# Altium schematic symbol library Regulator_Linear.SchLib: 1620 symbols (part 4 of 16)
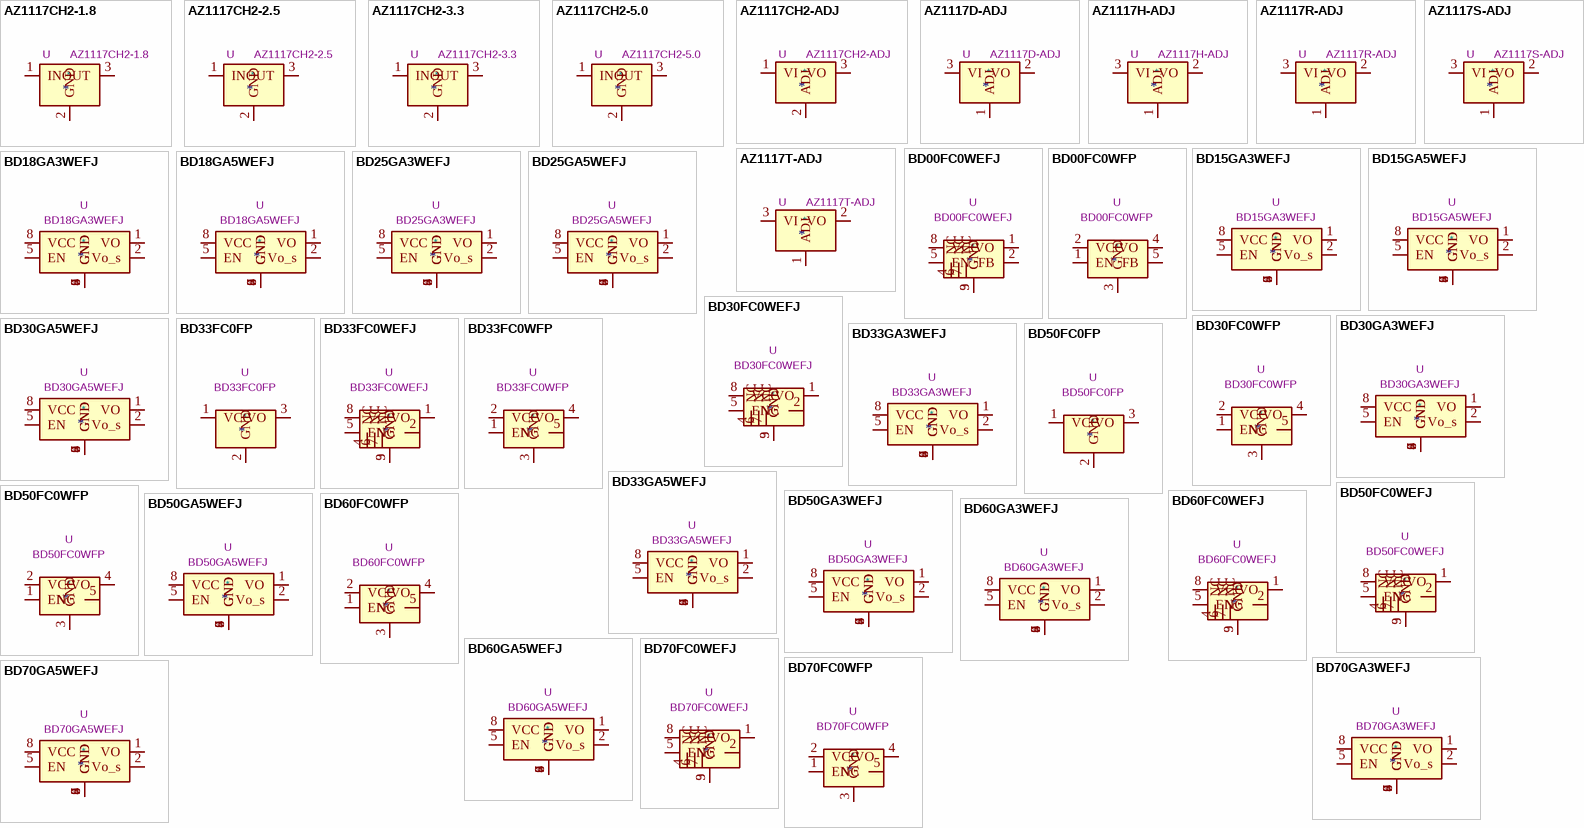
[diagram p43: symbols AZ1117CH2-1.8 to BD70GA5WEFJ]

## BD70FC0WFP
designator *  value BD70FC0WFP  Reference: U
1A, 7.0V LDO regulator with OVP & TSP, with enable, TO-252; ki_keywords: linear regulator fixed positive over voltage protection thermal shutdown; ki_fp_filters: TO?252*; Footprint: Package_TO_SOT_SMD:TO-252-4; Datasheet: https://fscdn.rohm.com/en/products/databook/datasheet/ic/power/linear_regulator/bdxxfc0wefj-e.pdf; Description_: 1A, 7.0V LDO regulator with OVP & TSP, with enable, TO-252
pins: 1 EN, 2 VCC, 3 GND, 4 VO, 5 NC

## BD70GA3WEFJ
designator *  value BD70GA3WEFJ  Reference: U
300mA, 7V LDO regulator with OVP & TSP, HTSOP-8; ki_keywords: linear regulator fixed positive over voltage protection thermal shutdown; ki_fp_filters: HTSOP*1EP*3.9x4.9mm*P1.27mm*; Footprint: Package_SO:HTSOP-8-1EP_3.9x4.9mm_P1.27mm_EP2.4x3.2mm; Datasheet: http://rohmfs.rohm.com/en/products/databook/datasheet/ic/power/linear_regulator/bdxxga3wefj-e.pdf; Description_: 300mA, 7V LDO regulator with OVP & TSP, HTSOP-8
pins: 1 VO, 2 Vo_s, 3 GND, 4 GND, 5 EN, 6 GND, 7 GND, 8 VCC, 9 GND

## BD70GA5WEFJ
designator *  value BD70GA5WEFJ  Reference: U
500mA, 7V LDO regulator with OVP & TSP, HTSOP-8; ki_keywords: linear regulator fixed positive over voltage protection thermal shutdown; ki_fp_filters: HTSOP*1EP*3.9x4.9mm*P1.27mm*; Footprint: Package_SO:HTSOP-8-1EP_3.9x4.9mm_P1.27mm_EP2.4x3.2mm; Datasheet: http://rohmfs.rohm.com/en/products/databook/datasheet/ic/power/linear_regulator/bdxxga5wefj-e.pdf; Description_: 500mA, 7V LDO regulator with OVP & TSP, HTSOP-8
pins: 1 VO, 2 Vo_s, 3 GND, 4 GND, 5 EN, 6 GND, 7 GND, 8 VCC, 9 GND

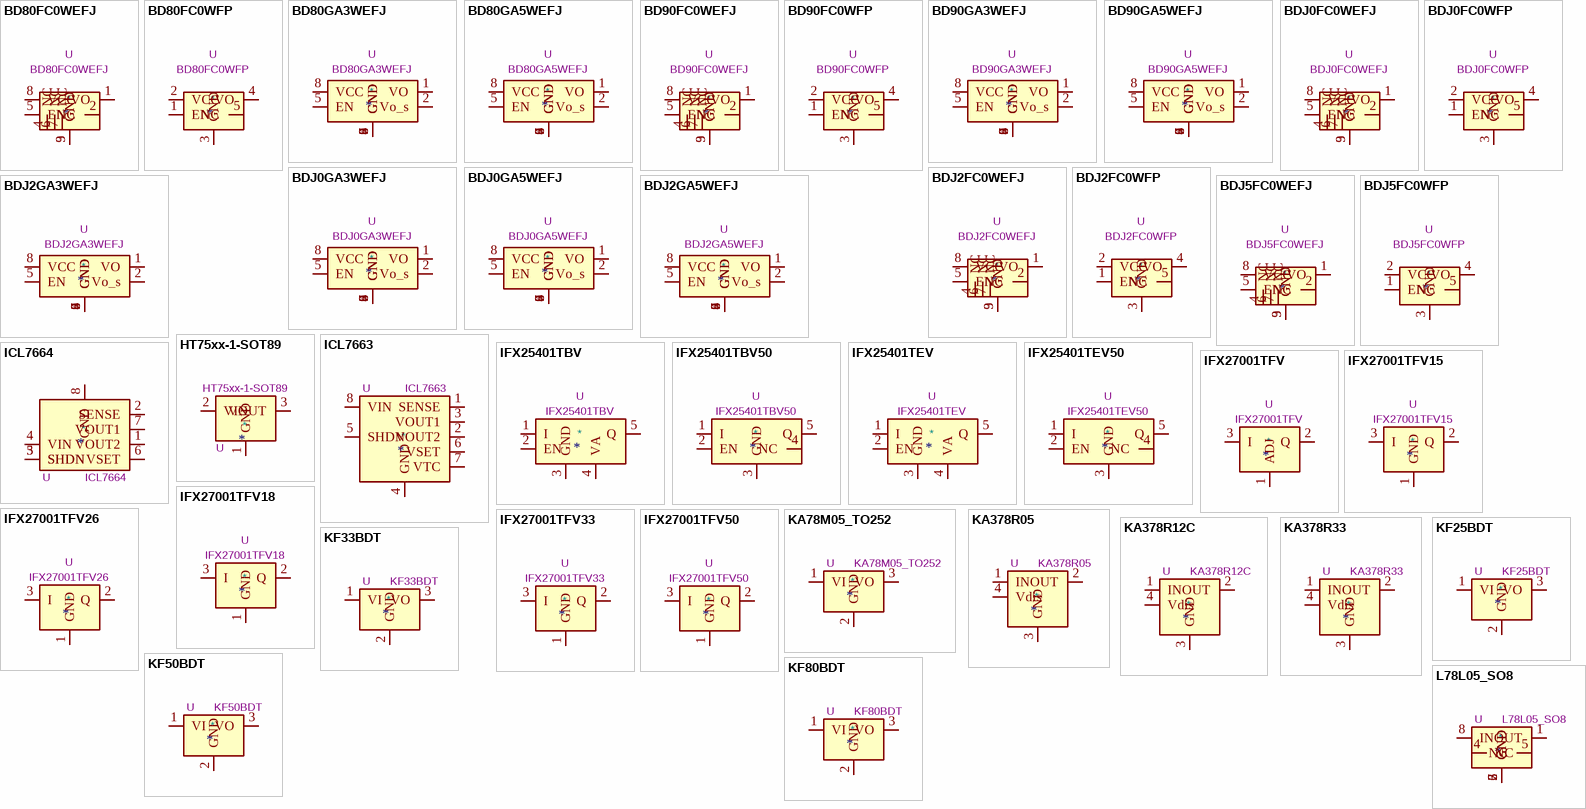
[diagram p8: symbols BD80FC0WEFJ to L78L05_SO8]

## BD80FC0WEFJ
designator *  value BD80FC0WEFJ  Reference: U
1A, 8.0V LDO regulator with OVP & TSP, with enable, HTSOP-J8; ki_keywords: linear regulator fixed positive over voltage protection thermal shutdown; ki_fp_filters: HTSOP*1EP*3.9x4.9mm*P1.27mm*; Footprint: Package_SO:HTSOP-8-1EP_3.9x4.9mm_P1.27mm_EP2.4x3.2mm; Datasheet: https://fscdn.rohm.com/en/products/databook/datasheet/ic/power/linear_regulator/bdxxfc0wefj-e.pdf; Description_: 1A, 8.0V LDO regulator with OVP & TSP, with enable, HTSOP-J8
pins: 1 VO, 2 NC, 3 GND, 4 NC, 5 EN, 6 NC, 7 NC, 8 VCC, 9 GND

## BD80FC0WFP
designator *  value BD80FC0WFP  Reference: U
1A, 8.0V LDO regulator with OVP & TSP, with enable, TO-252; ki_keywords: linear regulator fixed positive over voltage protection thermal shutdown; ki_fp_filters: TO?252*; Footprint: Package_TO_SOT_SMD:TO-252-4; Datasheet: https://fscdn.rohm.com/en/products/databook/datasheet/ic/power/linear_regulator/bdxxfc0wefj-e.pdf; Description_: 1A, 8.0V LDO regulator with OVP & TSP, with enable, TO-252
pins: 1 EN, 2 VCC, 3 GND, 4 VO, 5 NC

## BD80GA3WEFJ
designator *  value BD80GA3WEFJ  Reference: U
300mA, 8V LDO regulator with OVP & TSP, HTSOP-8; ki_keywords: linear regulator fixed positive over voltage protection thermal shutdown; ki_fp_filters: HTSOP*1EP*3.9x4.9mm*P1.27mm*; Footprint: Package_SO:HTSOP-8-1EP_3.9x4.9mm_P1.27mm_EP2.4x3.2mm; Datasheet: http://rohmfs.rohm.com/en/products/databook/datasheet/ic/power/linear_regulator/bdxxga3wefj-e.pdf; Description_: 300mA, 8V LDO regulator with OVP & TSP, HTSOP-8
pins: 1 VO, 2 Vo_s, 3 GND, 4 GND, 5 EN, 6 GND, 7 GND, 8 VCC, 9 GND

## BD80GA5WEFJ
designator *  value BD80GA5WEFJ  Reference: U
500mA, 8V LDO regulator with OVP & TSP, HTSOP-8; ki_keywords: linear regulator fixed positive over voltage protection thermal shutdown; ki_fp_filters: HTSOP*1EP*3.9x4.9mm*P1.27mm*; Footprint: Package_SO:HTSOP-8-1EP_3.9x4.9mm_P1.27mm_EP2.4x3.2mm; Datasheet: http://rohmfs.rohm.com/en/products/databook/datasheet/ic/power/linear_regulator/bdxxga5wefj-e.pdf; Description_: 500mA, 8V LDO regulator with OVP & TSP, HTSOP-8
pins: 1 VO, 2 Vo_s, 3 GND, 4 GND, 5 EN, 6 GND, 7 GND, 8 VCC, 9 GND

## BD90FC0WEFJ
designator *  value BD90FC0WEFJ  Reference: U
1A, 9.0V LDO regulator with OVP & TSP, with enable, HTSOP-J8; ki_keywords: linear regulator fixed positive over voltage protection thermal shutdown; ki_fp_filters: HTSOP*1EP*3.9x4.9mm*P1.27mm*; Footprint: Package_SO:HTSOP-8-1EP_3.9x4.9mm_P1.27mm_EP2.4x3.2mm; Datasheet: https://fscdn.rohm.com/en/products/databook/datasheet/ic/power/linear_regulator/bdxxfc0wefj-e.pdf; Description_: 1A, 9.0V LDO regulator with OVP & TSP, with enable, HTSOP-J8
pins: 1 VO, 2 NC, 3 GND, 4 NC, 5 EN, 6 NC, 7 NC, 8 VCC, 9 GND

## BD90FC0WFP
designator *  value BD90FC0WFP  Reference: U
1A, 9.0V LDO regulator with OVP & TSP, with enable, TO-252; ki_keywords: linear regulator fixed positive over voltage protection thermal shutdown; ki_fp_filters: TO?252*; Footprint: Package_TO_SOT_SMD:TO-252-4; Datasheet: https://fscdn.rohm.com/en/products/databook/datasheet/ic/power/linear_regulator/bdxxfc0wefj-e.pdf; Description_: 1A, 9.0V LDO regulator with OVP & TSP, with enable, TO-252
pins: 1 EN, 2 VCC, 3 GND, 4 VO, 5 NC

## BD90GA3WEFJ
designator *  value BD90GA3WEFJ  Reference: U
300mA, 9V LDO regulator with OVP & TSP, HTSOP-8; ki_keywords: linear regulator fixed positive over voltage protection thermal shutdown; ki_fp_filters: HTSOP*1EP*3.9x4.9mm*P1.27mm*; Footprint: Package_SO:HTSOP-8-1EP_3.9x4.9mm_P1.27mm_EP2.4x3.2mm; Datasheet: http://rohmfs.rohm.com/en/products/databook/datasheet/ic/power/linear_regulator/bdxxga3wefj-e.pdf; Description_: 300mA, 9V LDO regulator with OVP & TSP, HTSOP-8
pins: 1 VO, 2 Vo_s, 3 GND, 4 GND, 5 EN, 6 GND, 7 GND, 8 VCC, 9 GND

## BD90GA5WEFJ
designator *  value BD90GA5WEFJ  Reference: U
500mA, 9V LDO regulator with OVP & TSP, HTSOP-8; ki_keywords: linear regulator fixed positive over voltage protection thermal shutdown; ki_fp_filters: HTSOP*1EP*3.9x4.9mm*P1.27mm*; Footprint: Package_SO:HTSOP-8-1EP_3.9x4.9mm_P1.27mm_EP2.4x3.2mm; Datasheet: http://rohmfs.rohm.com/en/products/databook/datasheet/ic/power/linear_regulator/bdxxga5wefj-e.pdf; Description_: 500mA, 9V LDO regulator with OVP & TSP, HTSOP-8
pins: 1 VO, 2 Vo_s, 3 GND, 4 GND, 5 EN, 6 GND, 7 GND, 8 VCC, 9 GND

## BDJ0FC0WEFJ
designator *  value BDJ0FC0WEFJ  Reference: U
1A, 10.0V LDO regulator with OVP & TSP, with enable, HTSOP-J8; ki_keywords: linear regulator fixed positive over voltage protection thermal shutdown; ki_fp_filters: HTSOP*1EP*3.9x4.9mm*P1.27mm*; Footprint: Package_SO:HTSOP-8-1EP_3.9x4.9mm_P1.27mm_EP2.4x3.2mm; Datasheet: https://fscdn.rohm.com/en/products/databook/datasheet/ic/power/linear_regulator/bdxxfc0wefj-e.pdf; Description_: 1A, 10.0V LDO regulator with OVP & TSP, with enable, HTSOP-J8
pins: 1 VO, 2 NC, 3 GND, 4 NC, 5 EN, 6 NC, 7 NC, 8 VCC, 9 GND

## BDJ0FC0WFP
designator *  value BDJ0FC0WFP  Reference: U
1A, 10.0V LDO regulator with OVP & TSP, with enable, TO-252; ki_keywords: linear regulator fixed positive over voltage protection thermal shutdown; ki_fp_filters: TO?252*; Footprint: Package_TO_SOT_SMD:TO-252-4; Datasheet: https://fscdn.rohm.com/en/products/databook/datasheet/ic/power/linear_regulator/bdxxfc0wefj-e.pdf; Description_: 1A, 10.0V LDO regulator with OVP & TSP, with enable, TO-252
pins: 1 EN, 2 VCC, 3 GND, 4 VO, 5 NC

## BDJ0GA3WEFJ
designator *  value BDJ0GA3WEFJ  Reference: U
300mA, 10V LDO regulator with OVP & TSP, HTSOP-8; ki_keywords: linear regulator fixed positive over voltage protection thermal shutdown; ki_fp_filters: HTSOP*1EP*3.9x4.9mm*P1.27mm*; Footprint: Package_SO:HTSOP-8-1EP_3.9x4.9mm_P1.27mm_EP2.4x3.2mm; Datasheet: http://rohmfs.rohm.com/en/products/databook/datasheet/ic/power/linear_regulator/bdxxga3wefj-e.pdf; Description_: 300mA, 10V LDO regulator with OVP & TSP, HTSOP-8
pins: 1 VO, 2 Vo_s, 3 GND, 4 GND, 5 EN, 6 GND, 7 GND, 8 VCC, 9 GND

## BDJ0GA5WEFJ
designator *  value BDJ0GA5WEFJ  Reference: U
500mA, 10V LDO regulator with OVP & TSP, HTSOP-8; ki_keywords: linear regulator fixed positive over voltage protection thermal shutdown; ki_fp_filters: HTSOP*1EP*3.9x4.9mm*P1.27mm*; Footprint: Package_SO:HTSOP-8-1EP_3.9x4.9mm_P1.27mm_EP2.4x3.2mm; Datasheet: http://rohmfs.rohm.com/en/products/databook/datasheet/ic/power/linear_regulator/bdxxga5wefj-e.pdf; Description_: 500mA, 10V LDO regulator with OVP & TSP, HTSOP-8
pins: 1 VO, 2 Vo_s, 3 GND, 4 GND, 5 EN, 6 GND, 7 GND, 8 VCC, 9 GND

## BDJ2FC0WEFJ
designator *  value BDJ2FC0WEFJ  Reference: U
1A, 12.0V LDO regulator with OVP & TSP, with enable, HTSOP-J8; ki_keywords: linear regulator fixed positive over voltage protection thermal shutdown; ki_fp_filters: HTSOP*1EP*3.9x4.9mm*P1.27mm*; Footprint: Package_SO:HTSOP-8-1EP_3.9x4.9mm_P1.27mm_EP2.4x3.2mm; Datasheet: https://fscdn.rohm.com/en/products/databook/datasheet/ic/power/linear_regulator/bdxxfc0wefj-e.pdf; Description_: 1A, 12.0V LDO regulator with OVP & TSP, with enable, HTSOP-J8
pins: 1 VO, 2 NC, 3 GND, 4 NC, 5 EN, 6 NC, 7 NC, 8 VCC, 9 GND

## BDJ2FC0WFP
designator *  value BDJ2FC0WFP  Reference: U
1A, 12.0V LDO regulator with OVP & TSP, with enable, TO-252; ki_keywords: linear regulator fixed positive over voltage protection thermal shutdown; ki_fp_filters: TO?252*; Footprint: Package_TO_SOT_SMD:TO-252-4; Datasheet: https://fscdn.rohm.com/en/products/databook/datasheet/ic/power/linear_regulator/bdxxfc0wefj-e.pdf; Description_: 1A, 12.0V LDO regulator with OVP & TSP, with enable, TO-252
pins: 1 EN, 2 VCC, 3 GND, 4 VO, 5 NC

## BDJ2GA3WEFJ
designator *  value BDJ2GA3WEFJ  Reference: U
300mA, 12V LDO regulator with OVP & TSP, HTSOP-8; ki_keywords: linear regulator fixed positive over voltage protection thermal shutdown; ki_fp_filters: HTSOP*1EP*3.9x4.9mm*P1.27mm*; Footprint: Package_SO:HTSOP-8-1EP_3.9x4.9mm_P1.27mm_EP2.4x3.2mm; Datasheet: http://rohmfs.rohm.com/en/products/databook/datasheet/ic/power/linear_regulator/bdxxga3wefj-e.pdf; Description_: 300mA, 12V LDO regulator with OVP & TSP, HTSOP-8
pins: 1 VO, 2 Vo_s, 3 GND, 4 GND, 5 EN, 6 GND, 7 GND, 8 VCC, 9 GND

## BDJ2GA5WEFJ
designator *  value BDJ2GA5WEFJ  Reference: U
500mA, 12V LDO regulator with OVP & TSP, HTSOP-8; ki_keywords: linear regulator fixed positive over voltage protection thermal shutdown; ki_fp_filters: HTSOP*1EP*3.9x4.9mm*P1.27mm*; Footprint: Package_SO:HTSOP-8-1EP_3.9x4.9mm_P1.27mm_EP2.4x3.2mm; Datasheet: http://rohmfs.rohm.com/en/products/databook/datasheet/ic/power/linear_regulator/bdxxga5wefj-e.pdf; Description_: 500mA, 12V LDO regulator with OVP & TSP, HTSOP-8
pins: 1 VO, 2 Vo_s, 3 GND, 4 GND, 5 EN, 6 GND, 7 GND, 8 VCC, 9 GND

## BDJ5FC0WEFJ
designator *  value BDJ5FC0WEFJ  Reference: U
1A, 15.0V LDO regulator with OVP & TSP, with enable, HTSOP-J8; ki_keywords: linear regulator fixed positive over voltage protection thermal shutdown; ki_fp_filters: HTSOP*1EP*3.9x4.9mm*P1.27mm*; Footprint: Package_SO:HTSOP-8-1EP_3.9x4.9mm_P1.27mm_EP2.4x3.2mm; Datasheet: https://fscdn.rohm.com/en/products/databook/datasheet/ic/power/linear_regulator/bdxxfc0wefj-e.pdf; Description_: 1A, 15.0V LDO regulator with OVP & TSP, with enable, HTSOP-J8
pins: 1 VO, 2 NC, 3 GND, 4 NC, 5 EN, 6 NC, 7 NC, 8 VCC, 9 GND

## BDJ5FC0WFP
designator *  value BDJ5FC0WFP  Reference: U
1A, 15.0V LDO regulator with OVP & TSP, with enable, TO-252; ki_keywords: linear regulator fixed positive over voltage protection thermal shutdown; ki_fp_filters: TO?252*; Footprint: Package_TO_SOT_SMD:TO-252-4; Datasheet: https://fscdn.rohm.com/en/products/databook/datasheet/ic/power/linear_regulator/bdxxfc0wefj-e.pdf; Description_: 1A, 15.0V LDO regulator with OVP & TSP, with enable, TO-252
pins: 1 EN, 2 VCC, 3 GND, 4 VO, 5 NC

## HT75xx-1-SOT89
designator *  value HT75xx-1-SOT89  Reference: U
100mA Low Dropout Voltage Regulator, Fixed Output, SOT89; ki_keywords: 100mA LDO Regulator Fixed Positive; ki_fp_filters: SOT?89*; Footprint: Package_TO_SOT_SMD:SOT-89-3; Datasheet: https://www.holtek.com/documents/10179/116711/HT75xx-1v250.pdf; Description_: 100mA Low Dropout Voltage Regulator, Fixed Output, SOT89
pins: 1 GND, 2 VIN, 3 VOUT

## ICL7663
designator *  value ICL7663  Reference: U
50mA 5V/Programmable Voltage Regulator, DIP-8/SO-8/TO-99; ki_keywords: Linear Regulator 50mA 5V fixed; ki_fp_filters: DIP*W7.62mm* SOIC*3.9x4.9mm*P1.27mm* TO?99*; Datasheet: https://datasheets.maximintegrated.com/en/ds/ICL7663.pdf; Description_: 50mA 5V/Programmable Voltage Regulator, DIP-8/SO-8/TO-99
pins: 1 SENSE, 2 VOUT2, 3 VOUT1, 4 GND, 5 SHDN, 6 VSET, 7 VTC, 8 VIN

## ICL7664
designator *  value ICL7664  Reference: U
50mA Dual Mode -5V/Programmable Negative Voltage Regulator, DIP-8/SO-8/TO-99; ki_keywords: Linear Regulator 50mA -5V fixed negative; ki_fp_filters: DIP*W7.62mm* SOIC*3.9x4.9mm*P1.27mm* TO?99*; Datasheet: http://pe2bz.philpem.me.uk/pdf%20on%20typenumber/I-L/ICL7664.pdf; Description_: 50mA Dual Mode -5V/Programmable Negative Voltage Regulator, DIP-8/SO-8/TO-99
pins: 1 VOUT2, 2 SENSE, 3 SHDN, 4 VIN, 5 SHDN, 6 VSET, 7 VOUT1, 8 GND

## IFX25401TBV
designator *  value IFX25401TBV  Reference: U
Adjustable LDO Linear Voltage Regulator (TO-263-5); ki_keywords: adjustable LDO positive voltage regulator; ki_fp_filters: TO?263*TabPin3*; Footprint: Package_TO_SOT_SMD:TO-263-5_TabPin3; Datasheet: https://www.infineon.com/dgdl/Infineon-IFX25401-DS-v01_02-en.pdf?fileId=db3a304320d39d590120f62a690569f7; Description_: Adjustable LDO Linear Voltage Regulator (TO-263-5)
pins: 1 I, 2 EN, 3 GND, 4 VA, 5 Q

## IFX25401TBV50
designator *  value IFX25401TBV50  Reference: U
Fixed 5V LDO Linear Voltage Regulator (TO-263-5); ki_keywords: fixed ldo positive voltage regulator; ki_fp_filters: TO?263*TabPin3*; Footprint: Package_TO_SOT_SMD:TO-263-5_TabPin3; Datasheet: https://www.infineon.com/dgdl/Infineon-IFX25401-DS-v01_02-en.pdf?fileId=db3a304320d39d590120f62a690569f7; Description_: Fixed 5V LDO Linear Voltage Regulator (TO-263-5)
pins: 1 I, 2 EN, 3 GND, 4 NC, 5 Q

## IFX25401TEV
designator *  value IFX25401TEV  Reference: U
Adjustable LDO Linear Voltage Regulator (TO-252-4); ki_keywords: adjustable LDO positive voltage regulator; ki_fp_filters: TO*252*; Footprint: Package_TO_SOT_SMD:TO-252-4; Datasheet: https://www.infineon.com/dgdl/Infineon-IFX25401-DS-v01_02-en.pdf?fileId=db3a304320d39d590120f62a690569f7; Description_: Adjustable LDO Linear Voltage Regulator (TO-252-4)
pins: 1 I, 2 EN, 3 GND, 4 VA, 5 Q

## IFX25401TEV50
designator *  value IFX25401TEV50  Reference: U
Fixed 5V LDO Linear Voltage Regulator (TO-252-4); ki_keywords: fixed ldo positive voltage regulator; ki_fp_filters: TO*252*; Footprint: Package_TO_SOT_SMD:TO-252-4; Datasheet: https://www.infineon.com/dgdl/Infineon-IFX25401-DS-v01_02-en.pdf?fileId=db3a304320d39d590120f62a690569f7; Description_: Fixed 5V LDO Linear Voltage Regulator (TO-252-4)
pins: 1 I, 2 EN, 3 GND, 4 NC, 5 Q

## IFX27001TFV
designator *  value IFX27001TFV  Reference: U
1A Low Dropout Regulator, positive, adjustable output, TO-252-3; ki_keywords: LDO positive voltage industrial; ki_fp_filters: TO?252*; Footprint: Package_TO_SOT_SMD:TO-252-3_TabPin2; Datasheet: https://static6.arrow.com/aropdfconversion/dc75757ae45a88e5f69bdce3f2a651a5fe0ca07d/ifx27001_ds_10.pdf; Description_: 1A Low Dropout Regulator, positive, adjustable output, TO-252-3
pins: 1 ADJ, 2 Q, 3 I

## IFX27001TFV15
designator *  value IFX27001TFV15  Reference: U
1A Low Dropout Regulator, positive, 1.5V fixed output, TO-252-3; ki_keywords: LDO positive voltage industrial; ki_fp_filters: TO?252*; Footprint: Package_TO_SOT_SMD:TO-252-3_TabPin2; Datasheet: https://static6.arrow.com/aropdfconversion/dc75757ae45a88e5f69bdce3f2a651a5fe0ca07d/ifx27001_ds_10.pdf; Description_: 1A Low Dropout Regulator, positive, 1.5V fixed output, TO-252-3
pins: 1 GND, 2 Q, 3 I

## IFX27001TFV18
designator *  value IFX27001TFV18  Reference: U
1A Low Dropout Regulator, positive, 1.8V fixed output, TO-252-3; ki_keywords: LDO positive voltage industrial; ki_fp_filters: TO?252*; Footprint: Package_TO_SOT_SMD:TO-252-3_TabPin2; Datasheet: https://static6.arrow.com/aropdfconversion/dc75757ae45a88e5f69bdce3f2a651a5fe0ca07d/ifx27001_ds_10.pdf; Description_: 1A Low Dropout Regulator, positive, 1.8V fixed output, TO-252-3
pins: 1 GND, 2 Q, 3 I

## IFX27001TFV26
designator *  value IFX27001TFV26  Reference: U
1A Low Dropout Regulator, positive, 2.6V fixed output, TO-252-3; ki_keywords: LDO positive voltage industrial; ki_fp_filters: TO?252*; Footprint: Package_TO_SOT_SMD:TO-252-3_TabPin2; Datasheet: https://static6.arrow.com/aropdfconversion/dc75757ae45a88e5f69bdce3f2a651a5fe0ca07d/ifx27001_ds_10.pdf; Description_: 1A Low Dropout Regulator, positive, 2.6V fixed output, TO-252-3
pins: 1 GND, 2 Q, 3 I

## IFX27001TFV33
designator *  value IFX27001TFV33  Reference: U
1A Low Dropout Regulator, positive, 3.3V fixed output, TO-252-3; ki_keywords: LDO positive voltage industrial; ki_fp_filters: TO?252*; Footprint: Package_TO_SOT_SMD:TO-252-3_TabPin2; Datasheet: https://static6.arrow.com/aropdfconversion/dc75757ae45a88e5f69bdce3f2a651a5fe0ca07d/ifx27001_ds_10.pdf; Description_: 1A Low Dropout Regulator, positive, 3.3V fixed output, TO-252-3
pins: 1 GND, 2 Q, 3 I

## IFX27001TFV50
designator *  value IFX27001TFV50  Reference: U
1A Low Dropout Regulator, positive, 5.0V fixed output, TO-252-3; ki_keywords: LDO positive voltage industrial; ki_fp_filters: TO?252*; Footprint: Package_TO_SOT_SMD:TO-252-3_TabPin2; Datasheet: https://static6.arrow.com/aropdfconversion/dc75757ae45a88e5f69bdce3f2a651a5fe0ca07d/ifx27001_ds_10.pdf; Description_: 1A Low Dropout Regulator, positive, 5.0V fixed output, TO-252-3
pins: 1 GND, 2 Q, 3 I

## KA78M05_TO252
designator *  value KA78M05_TO252  Reference: U
Positive 500mA 35V Linear Regulator, Fixed Output 5V, TO-252 (D-PAK); ki_keywords: Voltage Regulator 500mA Positive; ki_fp_filters: TO?252*; Footprint: Package_TO_SOT_SMD:TO-252-2; Datasheet: https://www.onsemi.com/pub/Collateral/MC78M00-D.PDF; Description_: Positive 500mA 35V Linear Regulator, Fixed Output 5V, TO-252 (D-PAK)
pins: 1 VI, 2 GND, 3 VO

## KA378R05
designator *  value KA378R05  Reference: U
Positive 3A 35V Linear Regulator with Disable Pin, LDO, Fixed Output 5V, TO-220F-4L; ki_keywords: Voltage Regulator 3A Positive LDO Disable Pin; ki_fp_filters: TO?220*; Footprint: Package_TO_SOT_THT:TO-220-4_Vertical; Datasheet: https://www.onsemi.com/pub/Collateral/KA378R05-D.pdf; Description_: Positive 3A 35V Linear Regulator with Disable Pin, LDO, Fixed Output 5V, TO-220F-4L
pins: 1 IN, 2 OUT, 3 GND, 4 Vdis

## KA378R12C
designator *  value KA378R12C  Reference: U
Positive 3A 35V Linear Regulator with Disable Pin, LDO, Fixed Output 12V, TO-220F-4L; ki_keywords: Voltage Regulator 3A Positive LDO Disable Pin; ki_fp_filters: TO?220*; Footprint: Package_TO_SOT_THT:TO-220-4_Vertical; Datasheet: https://www.onsemi.com/pub/Collateral/KA378R12CTU-D.pdf; Description_: Positive 3A 35V Linear Regulator with Disable Pin, LDO, Fixed Output 12V, TO-220F-4L
pins: 1 IN, 2 OUT, 3 GND, 4 Vdis

## KA378R33
designator *  value KA378R33  Reference: U
Positive 3A 35V Linear Regulator with Disable Pin, LDO, Fixed Output 3.3V, TO-220F-4L; ki_keywords: Voltage Regulator 3A Positive LDO Disable Pin; ki_fp_filters: TO?220*; Footprint: Package_TO_SOT_THT:TO-220-4_Vertical; Datasheet: https://www.onsemi.com/pub/Collateral/KA378R33-D.pdf; Description_: Positive 3A 35V Linear Regulator with Disable Pin, LDO, Fixed Output 3.3V, TO-220F-4L
pins: 1 IN, 2 OUT, 3 GND, 4 Vdis

## KF25BDT
designator *  value KF25BDT  Reference: U
Positive 500mA 20V Linear Regulator, Fixed Output 2.5V, TO-252 (D-PAK); ki_keywords: Voltage Regulator 500mA Positive; ki_fp_filters: TO?252*; Footprint: Package_TO_SOT_SMD:TO-252-2; Datasheet: https://www.st.com/resource/en/datasheet/kfxx.pdf; Description_: Positive 500mA 20V Linear Regulator, Fixed Output 2.5V, TO-252 (D-PAK)
pins: 1 VI, 2 GND, 3 VO

## KF33BDT
designator *  value KF33BDT  Reference: U
Positive 500mA 20V Linear Regulator, Fixed Output 3.3V, TO-252 (D-PAK); ki_keywords: Voltage Regulator 500mA Positive; ki_fp_filters: TO?252*; Footprint: Package_TO_SOT_SMD:TO-252-2; Datasheet: https://www.st.com/resource/en/datasheet/kfxx.pdf; Description_: Positive 500mA 20V Linear Regulator, Fixed Output 3.3V, TO-252 (D-PAK)
pins: 1 VI, 2 GND, 3 VO

## KF50BDT
designator *  value KF50BDT  Reference: U
Positive 500mA 20V Linear Regulator, Fixed Output 5V, TO-252 (D-PAK); ki_keywords: Voltage Regulator 500mA Positive; ki_fp_filters: TO?252*; Footprint: Package_TO_SOT_SMD:TO-252-2; Datasheet: https://www.st.com/resource/en/datasheet/kfxx.pdf; Description_: Positive 500mA 20V Linear Regulator, Fixed Output 5V, TO-252 (D-PAK)
pins: 1 VI, 2 GND, 3 VO

## KF80BDT
designator *  value KF80BDT  Reference: U
Positive 500mA 20V Linear Regulator, Fixed Output 8V, TO-252 (D-PAK); ki_keywords: Voltage Regulator 500mA Positive; ki_fp_filters: TO?252*; Footprint: Package_TO_SOT_SMD:TO-252-2; Datasheet: https://www.st.com/resource/en/datasheet/kfxx.pdf; Description_: Positive 500mA 20V Linear Regulator, Fixed Output 8V, TO-252 (D-PAK)
pins: 1 VI, 2 GND, 3 VO

## L78L05_SO8
designator *  value L78L05_SO8  Reference: U
Positive 100mA 30V Linear Regulator, Fixed Output 5V, SO-8; ki_keywords: Voltage Regulator 100mA Positive; ki_fp_filters: SOIC*3.9x4.9mm*P1.27mm*; Footprint: Package_SO:SOIC-8_3.9x4.9mm_P1.27mm; Datasheet: http://www.st.com/content/ccc/resource/technical/document/datasheet/15/55/e5/aa/23/5b/43/fd/CD00000446.pdf/files/CD00000446.pdf/jcr:content/translations/en.CD00000446.pdf; Description_: Positive 100mA 30V Linear Regulator, Fixed Output 5V, SO-8
pins: 1 OUT, 2 GND, 3 GND, 4 NC, 5 NC, 6 GND, 7 GND, 8 IN

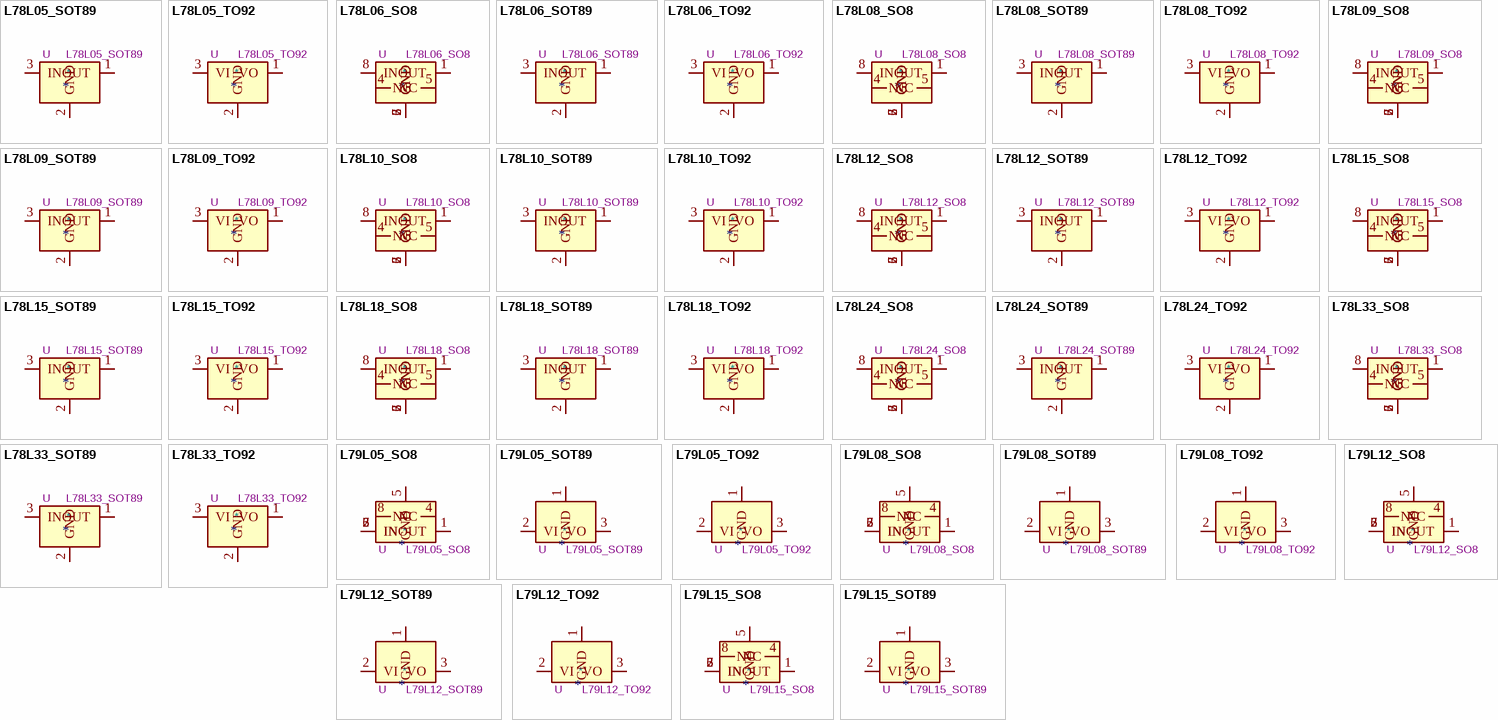
[diagram p9: symbols L78L05_SOT89 to L79L15_SOT89]

## L78L05_SOT89
designator *  value L78L05_SOT89  Reference: U
Positive 100mA 30V Linear Regulator, Fixed Output 5V, SOT-89; ki_keywords: Voltage Regulator 100mA Positive; ki_fp_filters: SOT?89*; Footprint: Package_TO_SOT_SMD:SOT-89-3; Datasheet: http://www.st.com/content/ccc/resource/technical/document/datasheet/15/55/e5/aa/23/5b/43/fd/CD00000446.pdf/files/CD00000446.pdf/jcr:content/translations/en.CD00000446.pdf; Description_: Positive 100mA 30V Linear Regulator, Fixed Output 5V, SOT-89
pins: 1 OUT, 2 GND, 3 IN

## L78L05_TO92
designator *  value L78L05_TO92  Reference: U
Positive 100mA 30V Linear Regulator, Fixed Output 5V, TO-92; ki_keywords: Voltage Regulator 100mA Positive; ki_fp_filters: TO?92*; Footprint: Package_TO_SOT_THT:TO-92_Inline; Datasheet: http://www.st.com/content/ccc/resource/technical/document/datasheet/15/55/e5/aa/23/5b/43/fd/CD00000446.pdf/files/CD00000446.pdf/jcr:content/translations/en.CD00000446.pdf; Description_: Positive 100mA 30V Linear Regulator, Fixed Output 5V, TO-92
pins: 1 VO, 2 GND, 3 VI

## L78L06_SO8
designator *  value L78L06_SO8  Reference: U
Positive 100mA 30V Linear Regulator, Fixed Output 6V, SO-8; ki_keywords: Voltage Regulator 100mA Positive; ki_fp_filters: SOIC*3.9x4.9mm*P1.27mm*; Footprint: Package_SO:SOIC-8_3.9x4.9mm_P1.27mm; Datasheet: http://www.st.com/content/ccc/resource/technical/document/datasheet/15/55/e5/aa/23/5b/43/fd/CD00000446.pdf/files/CD00000446.pdf/jcr:content/translations/en.CD00000446.pdf; Description_: Positive 100mA 30V Linear Regulator, Fixed Output 6V, SO-8
pins: 1 OUT, 2 GND, 3 GND, 4 NC, 5 NC, 6 GND, 7 GND, 8 IN

## L78L06_SOT89
designator *  value L78L06_SOT89  Reference: U
Positive 100mA 30V Linear Regulator, Fixed Output 6V, SOT-89; ki_keywords: Voltage Regulator 100mA Positive; ki_fp_filters: SOT?89*; Footprint: Package_TO_SOT_SMD:SOT-89-3; Datasheet: http://www.st.com/content/ccc/resource/technical/document/datasheet/15/55/e5/aa/23/5b/43/fd/CD00000446.pdf/files/CD00000446.pdf/jcr:content/translations/en.CD00000446.pdf; Description_: Positive 100mA 30V Linear Regulator, Fixed Output 6V, SOT-89
pins: 1 OUT, 2 GND, 3 IN

## L78L06_TO92
designator *  value L78L06_TO92  Reference: U
Positive 100mA 30V Linear Regulator, Fixed Output 6V, TO-92; ki_keywords: Voltage Regulator 100mA Positive; ki_fp_filters: TO?92*; Footprint: Package_TO_SOT_THT:TO-92_Inline; Datasheet: http://www.st.com/content/ccc/resource/technical/document/datasheet/15/55/e5/aa/23/5b/43/fd/CD00000446.pdf/files/CD00000446.pdf/jcr:content/translations/en.CD00000446.pdf; Description_: Positive 100mA 30V Linear Regulator, Fixed Output 6V, TO-92
pins: 1 VO, 2 GND, 3 VI

## L78L08_SO8
designator *  value L78L08_SO8  Reference: U
Positive 100mA 30V Linear Regulator, Fixed Output 8V, SO-8; ki_keywords: Voltage Regulator 100mA Positive; ki_fp_filters: SOIC*3.9x4.9mm*P1.27mm*; Footprint: Package_SO:SOIC-8_3.9x4.9mm_P1.27mm; Datasheet: http://www.st.com/content/ccc/resource/technical/document/datasheet/15/55/e5/aa/23/5b/43/fd/CD00000446.pdf/files/CD00000446.pdf/jcr:content/translations/en.CD00000446.pdf; Description_: Positive 100mA 30V Linear Regulator, Fixed Output 8V, SO-8
pins: 1 OUT, 2 GND, 3 GND, 4 NC, 5 NC, 6 GND, 7 GND, 8 IN

## L78L08_SOT89
designator *  value L78L08_SOT89  Reference: U
Positive 100mA 30V Linear Regulator, Fixed Output 8V, SOT-89; ki_keywords: Voltage Regulator 100mA Positive; ki_fp_filters: SOT?89*; Footprint: Package_TO_SOT_SMD:SOT-89-3; Datasheet: http://www.st.com/content/ccc/resource/technical/document/datasheet/15/55/e5/aa/23/5b/43/fd/CD00000446.pdf/files/CD00000446.pdf/jcr:content/translations/en.CD00000446.pdf; Description_: Positive 100mA 30V Linear Regulator, Fixed Output 8V, SOT-89
pins: 1 OUT, 2 GND, 3 IN

## L78L08_TO92
designator *  value L78L08_TO92  Reference: U
Positive 100mA 30V Linear Regulator, Fixed Output 8V, TO-92; ki_keywords: Voltage Regulator 100mA Positive; ki_fp_filters: TO?92*; Footprint: Package_TO_SOT_THT:TO-92_Inline; Datasheet: http://www.st.com/content/ccc/resource/technical/document/datasheet/15/55/e5/aa/23/5b/43/fd/CD00000446.pdf/files/CD00000446.pdf/jcr:content/translations/en.CD00000446.pdf; Description_: Positive 100mA 30V Linear Regulator, Fixed Output 8V, TO-92
pins: 1 VO, 2 GND, 3 VI

## L78L09_SO8
designator *  value L78L09_SO8  Reference: U
Positive 100mA 30V Linear Regulator, Fixed Output 9V, SO-8; ki_keywords: Voltage Regulator 100mA Positive; ki_fp_filters: SOIC*3.9x4.9mm*P1.27mm*; Footprint: Package_SO:SOIC-8_3.9x4.9mm_P1.27mm; Datasheet: http://www.st.com/content/ccc/resource/technical/document/datasheet/15/55/e5/aa/23/5b/43/fd/CD00000446.pdf/files/CD00000446.pdf/jcr:content/translations/en.CD00000446.pdf; Description_: Positive 100mA 30V Linear Regulator, Fixed Output 9V, SO-8
pins: 1 OUT, 2 GND, 3 GND, 4 NC, 5 NC, 6 GND, 7 GND, 8 IN

## L78L09_SOT89
designator *  value L78L09_SOT89  Reference: U
Positive 100mA 30V Linear Regulator, Fixed Output 9V, SOT-89; ki_keywords: Voltage Regulator 100mA Positive; ki_fp_filters: SOT?89*; Footprint: Package_TO_SOT_SMD:SOT-89-3; Datasheet: http://www.st.com/content/ccc/resource/technical/document/datasheet/15/55/e5/aa/23/5b/43/fd/CD00000446.pdf/files/CD00000446.pdf/jcr:content/translations/en.CD00000446.pdf; Description_: Positive 100mA 30V Linear Regulator, Fixed Output 9V, SOT-89
pins: 1 OUT, 2 GND, 3 IN

## L78L09_TO92
designator *  value L78L09_TO92  Reference: U
Positive 100mA 30V Linear Regulator, Fixed Output 9V, TO-92; ki_keywords: Voltage Regulator 100mA Positive; ki_fp_filters: TO?92*; Footprint: Package_TO_SOT_THT:TO-92_Inline; Datasheet: http://www.st.com/content/ccc/resource/technical/document/datasheet/15/55/e5/aa/23/5b/43/fd/CD00000446.pdf/files/CD00000446.pdf/jcr:content/translations/en.CD00000446.pdf; Description_: Positive 100mA 30V Linear Regulator, Fixed Output 9V, TO-92
pins: 1 VO, 2 GND, 3 VI

## L78L10_SO8
designator *  value L78L10_SO8  Reference: U
Positive 100mA 30V Linear Regulator, Fixed Output 10V, SO-8; ki_keywords: Voltage Regulator 100mA Positive; ki_fp_filters: SOIC*3.9x4.9mm*P1.27mm*; Footprint: Package_SO:SOIC-8_3.9x4.9mm_P1.27mm; Datasheet: http://www.st.com/content/ccc/resource/technical/document/datasheet/15/55/e5/aa/23/5b/43/fd/CD00000446.pdf/files/CD00000446.pdf/jcr:content/translations/en.CD00000446.pdf; Description_: Positive 100mA 30V Linear Regulator, Fixed Output 10V, SO-8
pins: 1 OUT, 2 GND, 3 GND, 4 NC, 5 NC, 6 GND, 7 GND, 8 IN

## L78L10_SOT89
designator *  value L78L10_SOT89  Reference: U
Positive 100mA 30V Linear Regulator, Fixed Output 10V, SOT-89; ki_keywords: Voltage Regulator 100mA Positive; ki_fp_filters: SOT?89*; Footprint: Package_TO_SOT_SMD:SOT-89-3; Datasheet: http://www.st.com/content/ccc/resource/technical/document/datasheet/15/55/e5/aa/23/5b/43/fd/CD00000446.pdf/files/CD00000446.pdf/jcr:content/translations/en.CD00000446.pdf; Description_: Positive 100mA 30V Linear Regulator, Fixed Output 10V, SOT-89
pins: 1 OUT, 2 GND, 3 IN

## L78L10_TO92
designator *  value L78L10_TO92  Reference: U
Positive 100mA 30V Linear Regulator, Fixed Output 10V, TO-92; ki_keywords: Voltage Regulator 100mA Positive; ki_fp_filters: TO?92*; Footprint: Package_TO_SOT_THT:TO-92_Inline; Datasheet: http://www.st.com/content/ccc/resource/technical/document/datasheet/15/55/e5/aa/23/5b/43/fd/CD00000446.pdf/files/CD00000446.pdf/jcr:content/translations/en.CD00000446.pdf; Description_: Positive 100mA 30V Linear Regulator, Fixed Output 10V, TO-92
pins: 1 VO, 2 GND, 3 VI

## L78L12_SO8
designator *  value L78L12_SO8  Reference: U
Positive 100mA 30V Linear Regulator, Fixed Output 12V, SO-8; ki_keywords: Voltage Regulator 100mA Positive; ki_fp_filters: SOIC*3.9x4.9mm*P1.27mm*; Footprint: Package_SO:SOIC-8_3.9x4.9mm_P1.27mm; Datasheet: http://www.st.com/content/ccc/resource/technical/document/datasheet/15/55/e5/aa/23/5b/43/fd/CD00000446.pdf/files/CD00000446.pdf/jcr:content/translations/en.CD00000446.pdf; Description_: Positive 100mA 30V Linear Regulator, Fixed Output 12V, SO-8
pins: 1 OUT, 2 GND, 3 GND, 4 NC, 5 NC, 6 GND, 7 GND, 8 IN

## L78L12_SOT89
designator *  value L78L12_SOT89  Reference: U
Positive 100mA 30V Linear Regulator, Fixed Output 12V, SOT-89; ki_keywords: Voltage Regulator 100mA Positive; ki_fp_filters: SOT?89*; Footprint: Package_TO_SOT_SMD:SOT-89-3; Datasheet: http://www.st.com/content/ccc/resource/technical/document/datasheet/15/55/e5/aa/23/5b/43/fd/CD00000446.pdf/files/CD00000446.pdf/jcr:content/translations/en.CD00000446.pdf; Description_: Positive 100mA 30V Linear Regulator, Fixed Output 12V, SOT-89
pins: 1 OUT, 2 GND, 3 IN

## L78L12_TO92
designator *  value L78L12_TO92  Reference: U
Positive 100mA 30V Linear Regulator, Fixed Output 12V, TO-92; ki_keywords: Voltage Regulator 100mA Positive; ki_fp_filters: TO?92*; Footprint: Package_TO_SOT_THT:TO-92_Inline; Datasheet: http://www.st.com/content/ccc/resource/technical/document/datasheet/15/55/e5/aa/23/5b/43/fd/CD00000446.pdf/files/CD00000446.pdf/jcr:content/translations/en.CD00000446.pdf; Description_: Positive 100mA 30V Linear Regulator, Fixed Output 12V, TO-92
pins: 1 VO, 2 GND, 3 VI

## L78L15_SO8
designator *  value L78L15_SO8  Reference: U
Positive 100mA 30V Linear Regulator, Fixed Output 15V, SO-8; ki_keywords: Voltage Regulator 100mA Positive; ki_fp_filters: SOIC*3.9x4.9mm*P1.27mm*; Footprint: Package_SO:SOIC-8_3.9x4.9mm_P1.27mm; Datasheet: http://www.st.com/content/ccc/resource/technical/document/datasheet/15/55/e5/aa/23/5b/43/fd/CD00000446.pdf/files/CD00000446.pdf/jcr:content/translations/en.CD00000446.pdf; Description_: Positive 100mA 30V Linear Regulator, Fixed Output 15V, SO-8
pins: 1 OUT, 2 GND, 3 GND, 4 NC, 5 NC, 6 GND, 7 GND, 8 IN

## L78L15_SOT89
designator *  value L78L15_SOT89  Reference: U
Positive 100mA 30V Linear Regulator, Fixed Output 15V, SOT-89; ki_keywords: Voltage Regulator 100mA Positive; ki_fp_filters: SOT?89*; Footprint: Package_TO_SOT_SMD:SOT-89-3; Datasheet: http://www.st.com/content/ccc/resource/technical/document/datasheet/15/55/e5/aa/23/5b/43/fd/CD00000446.pdf/files/CD00000446.pdf/jcr:content/translations/en.CD00000446.pdf; Description_: Positive 100mA 30V Linear Regulator, Fixed Output 15V, SOT-89
pins: 1 OUT, 2 GND, 3 IN

## L78L15_TO92
designator *  value L78L15_TO92  Reference: U
Positive 100mA 30V Linear Regulator, Fixed Output 15V, TO-92; ki_keywords: Voltage Regulator 100mA Positive; ki_fp_filters: TO?92*; Footprint: Package_TO_SOT_THT:TO-92_Inline; Datasheet: http://www.st.com/content/ccc/resource/technical/document/datasheet/15/55/e5/aa/23/5b/43/fd/CD00000446.pdf/files/CD00000446.pdf/jcr:content/translations/en.CD00000446.pdf; Description_: Positive 100mA 30V Linear Regulator, Fixed Output 15V, TO-92
pins: 1 VO, 2 GND, 3 VI

## L78L18_SO8
designator *  value L78L18_SO8  Reference: U
Positive 100mA 30V Linear Regulator, Fixed Output 18V, SO-8; ki_keywords: Voltage Regulator 100mA Positive; ki_fp_filters: SOIC*3.9x4.9mm*P1.27mm*; Footprint: Package_SO:SOIC-8_3.9x4.9mm_P1.27mm; Datasheet: http://www.st.com/content/ccc/resource/technical/document/datasheet/15/55/e5/aa/23/5b/43/fd/CD00000446.pdf/files/CD00000446.pdf/jcr:content/translations/en.CD00000446.pdf; Description_: Positive 100mA 30V Linear Regulator, Fixed Output 18V, SO-8
pins: 1 OUT, 2 GND, 3 GND, 4 NC, 5 NC, 6 GND, 7 GND, 8 IN

## L78L18_SOT89
designator *  value L78L18_SOT89  Reference: U
Positive 100mA 30V Linear Regulator, Fixed Output 18V, SOT-89; ki_keywords: Voltage Regulator 100mA Positive; ki_fp_filters: SOT?89*; Footprint: Package_TO_SOT_SMD:SOT-89-3; Datasheet: http://www.st.com/content/ccc/resource/technical/document/datasheet/15/55/e5/aa/23/5b/43/fd/CD00000446.pdf/files/CD00000446.pdf/jcr:content/translations/en.CD00000446.pdf; Description_: Positive 100mA 30V Linear Regulator, Fixed Output 18V, SOT-89
pins: 1 OUT, 2 GND, 3 IN

## L78L18_TO92
designator *  value L78L18_TO92  Reference: U
Positive 100mA 30V Linear Regulator, Fixed Output 18V, TO-92; ki_keywords: Voltage Regulator 100mA Positive; ki_fp_filters: TO?92*; Footprint: Package_TO_SOT_THT:TO-92_Inline; Datasheet: http://www.st.com/content/ccc/resource/technical/document/datasheet/15/55/e5/aa/23/5b/43/fd/CD00000446.pdf/files/CD00000446.pdf/jcr:content/translations/en.CD00000446.pdf; Description_: Positive 100mA 30V Linear Regulator, Fixed Output 18V, TO-92
pins: 1 VO, 2 GND, 3 VI

## L78L24_SO8
designator *  value L78L24_SO8  Reference: U
Positive 100mA 30V Linear Regulator, Fixed Output 24V, SO-8; ki_keywords: Voltage Regulator 100mA Positive; ki_fp_filters: SOIC*3.9x4.9mm*P1.27mm*; Footprint: Package_SO:SOIC-8_3.9x4.9mm_P1.27mm; Datasheet: http://www.st.com/content/ccc/resource/technical/document/datasheet/15/55/e5/aa/23/5b/43/fd/CD00000446.pdf/files/CD00000446.pdf/jcr:content/translations/en.CD00000446.pdf; Description_: Positive 100mA 30V Linear Regulator, Fixed Output 24V, SO-8
pins: 1 OUT, 2 GND, 3 GND, 4 NC, 5 NC, 6 GND, 7 GND, 8 IN

## L78L24_SOT89
designator *  value L78L24_SOT89  Reference: U
Positive 100mA 30V Linear Regulator, Fixed Output 24V, SOT-89; ki_keywords: Voltage Regulator 100mA Positive; ki_fp_filters: SOT?89*; Footprint: Package_TO_SOT_SMD:SOT-89-3; Datasheet: http://www.st.com/content/ccc/resource/technical/document/datasheet/15/55/e5/aa/23/5b/43/fd/CD00000446.pdf/files/CD00000446.pdf/jcr:content/translations/en.CD00000446.pdf; Description_: Positive 100mA 30V Linear Regulator, Fixed Output 24V, SOT-89
pins: 1 OUT, 2 GND, 3 IN

## L78L24_TO92
designator *  value L78L24_TO92  Reference: U
Positive 100mA 30V Linear Regulator, Fixed Output 24V, TO-92; ki_keywords: Voltage Regulator 100mA Positive; ki_fp_filters: TO?92*; Footprint: Package_TO_SOT_THT:TO-92_Inline; Datasheet: http://www.st.com/content/ccc/resource/technical/document/datasheet/15/55/e5/aa/23/5b/43/fd/CD00000446.pdf/files/CD00000446.pdf/jcr:content/translations/en.CD00000446.pdf; Description_: Positive 100mA 30V Linear Regulator, Fixed Output 24V, TO-92
pins: 1 VO, 2 GND, 3 VI

## L78L33_SO8
designator *  value L78L33_SO8  Reference: U
Positive 100mA 30V Linear Regulator, Fixed Output 3.3V, SO-8; ki_keywords: Voltage Regulator 100mA Positive; ki_fp_filters: SOIC*3.9x4.9mm*P1.27mm*; Footprint: Package_SO:SOIC-8_3.9x4.9mm_P1.27mm; Datasheet: http://www.st.com/content/ccc/resource/technical/document/datasheet/15/55/e5/aa/23/5b/43/fd/CD00000446.pdf/files/CD00000446.pdf/jcr:content/translations/en.CD00000446.pdf; Description_: Positive 100mA 30V Linear Regulator, Fixed Output 3.3V, SO-8
pins: 1 OUT, 2 GND, 3 GND, 4 NC, 5 NC, 6 GND, 7 GND, 8 IN

## L78L33_SOT89
designator *  value L78L33_SOT89  Reference: U
Positive 100mA 30V Linear Regulator, Fixed Output 3.3V, SOT-89; ki_keywords: Voltage Regulator 100mA Positive; ki_fp_filters: SOT?89*; Footprint: Package_TO_SOT_SMD:SOT-89-3; Datasheet: http://www.st.com/content/ccc/resource/technical/document/datasheet/15/55/e5/aa/23/5b/43/fd/CD00000446.pdf/files/CD00000446.pdf/jcr:content/translations/en.CD00000446.pdf; Description_: Positive 100mA 30V Linear Regulator, Fixed Output 3.3V, SOT-89
pins: 1 OUT, 2 GND, 3 IN

## L78L33_TO92
designator *  value L78L33_TO92  Reference: U
Positive 100mA 30V Linear Regulator, Fixed Output 3.3V, TO-92; ki_keywords: Voltage Regulator 100mA Positive; ki_fp_filters: TO?92*; Footprint: Package_TO_SOT_THT:TO-92_Inline; Datasheet: http://www.st.com/content/ccc/resource/technical/document/datasheet/15/55/e5/aa/23/5b/43/fd/CD00000446.pdf/files/CD00000446.pdf/jcr:content/translations/en.CD00000446.pdf; Description_: Positive 100mA 30V Linear Regulator, Fixed Output 3.3V, TO-92
pins: 1 VO, 2 GND, 3 VI

## L79L05_SO8
designator *  value L79L05_SO8  Reference: U
Negative 100mA -30V Linear Regulator, Fixed Output -5V, SO-8; ki_keywords: Voltage Regulator 100mA Negative; ki_fp_filters: SOIC?8*3.9x4.9mm*P1.27mm*; Footprint: Package_SO:SOIC-8_3.9x4.9mm_P1.27mm; Datasheet: http://www.farnell.com/datasheets/1827870.pdf; Description_: Negative 100mA -30V Linear Regulator, Fixed Output -5V, SO-8
pins: 1 OUT, 2 IN, 3 IN, 4 NC, 5 GND, 6 IN, 7 IN, 8 NC

## L79L05_SOT89
designator *  value L79L05_SOT89  Reference: U
Negative 100mA -30V Linear Regulator, Fixed Output -5V, SOT-89; ki_keywords: Voltage Regulator 100mA Negative; ki_fp_filters: SOT?89*; Footprint: Package_TO_SOT_SMD:SOT-89-3; Datasheet: http://www.farnell.com/datasheets/1827870.pdf; Description_: Negative 100mA -30V Linear Regulator, Fixed Output -5V, SOT-89
pins: 1 GND, 2 VI, 3 VO

## L79L05_TO92
designator *  value L79L05_TO92  Reference: U
Negative 100mA -30V Linear Regulator, Fixed Output -5V, TO-92; ki_keywords: Voltage Regulator 100mA Negative; ki_fp_filters: TO?92*; Footprint: Package_TO_SOT_THT:TO-92_Inline; Datasheet: http://www.farnell.com/datasheets/1827870.pdf; Description_: Negative 100mA -30V Linear Regulator, Fixed Output -5V, TO-92
pins: 1 GND, 2 VI, 3 VO

## L79L08_SO8
designator *  value L79L08_SO8  Reference: U
Negative 100mA -30V Linear Regulator, Fixed Output -5V, SO-8; ki_keywords: Voltage Regulator 100mA Negative; ki_fp_filters: SOIC?8*3.9x4.9mm*P1.27mm*; Footprint: Package_SO:SOIC-8_3.9x4.9mm_P1.27mm; Datasheet: http://www.farnell.com/datasheets/1827870.pdf; Description_: Negative 100mA -30V Linear Regulator, Fixed Output -5V, SO-8
pins: 1 OUT, 2 IN, 3 IN, 4 NC, 5 GND, 6 IN, 7 IN, 8 NC

## L79L08_SOT89
designator *  value L79L08_SOT89  Reference: U
Negative 100mA -30V Linear Regulator, Fixed Output -5V, SOT-89; ki_keywords: Voltage Regulator 100mA Negative; ki_fp_filters: SOT?89*; Footprint: Package_TO_SOT_SMD:SOT-89-3; Datasheet: http://www.farnell.com/datasheets/1827870.pdf; Description_: Negative 100mA -30V Linear Regulator, Fixed Output -5V, SOT-89
pins: 1 GND, 2 VI, 3 VO

## L79L08_TO92
designator *  value L79L08_TO92  Reference: U
Negative 100mA -30V Linear Regulator, Fixed Output -5V, TO-92; ki_keywords: Voltage Regulator 100mA Negative; ki_fp_filters: TO?92*; Footprint: Package_TO_SOT_THT:TO-92_Inline; Datasheet: http://www.farnell.com/datasheets/1827870.pdf; Description_: Negative 100mA -30V Linear Regulator, Fixed Output -5V, TO-92
pins: 1 GND, 2 VI, 3 VO

## L79L12_SO8
designator *  value L79L12_SO8  Reference: U
Negative 100mA -30V Linear Regulator, Fixed Output -5V, SO-8; ki_keywords: Voltage Regulator 100mA Negative; ki_fp_filters: SOIC?8*3.9x4.9mm*P1.27mm*; Footprint: Package_SO:SOIC-8_3.9x4.9mm_P1.27mm; Datasheet: http://www.farnell.com/datasheets/1827870.pdf; Description_: Negative 100mA -30V Linear Regulator, Fixed Output -5V, SO-8
pins: 1 OUT, 2 IN, 3 IN, 4 NC, 5 GND, 6 IN, 7 IN, 8 NC

## L79L12_SOT89
designator *  value L79L12_SOT89  Reference: U
Negative 100mA -30V Linear Regulator, Fixed Output -5V, SOT-89; ki_keywords: Voltage Regulator 100mA Negative; ki_fp_filters: SOT?89*; Footprint: Package_TO_SOT_SMD:SOT-89-3; Datasheet: http://www.farnell.com/datasheets/1827870.pdf; Description_: Negative 100mA -30V Linear Regulator, Fixed Output -5V, SOT-89
pins: 1 GND, 2 VI, 3 VO

## L79L12_TO92
designator *  value L79L12_TO92  Reference: U
Negative 100mA -30V Linear Regulator, Fixed Output -5V, TO-92; ki_keywords: Voltage Regulator 100mA Negative; ki_fp_filters: TO?92*; Footprint: Package_TO_SOT_THT:TO-92_Inline; Datasheet: http://www.farnell.com/datasheets/1827870.pdf; Description_: Negative 100mA -30V Linear Regulator, Fixed Output -5V, TO-92
pins: 1 GND, 2 VI, 3 VO

## L79L15_SO8
designator *  value L79L15_SO8  Reference: U
Negative 100mA -30V Linear Regulator, Fixed Output -5V, SO-8; ki_keywords: Voltage Regulator 100mA Negative; ki_fp_filters: SOIC?8*3.9x4.9mm*P1.27mm*; Footprint: Package_SO:SOIC-8_3.9x4.9mm_P1.27mm; Datasheet: http://www.farnell.com/datasheets/1827870.pdf; Description_: Negative 100mA -30V Linear Regulator, Fixed Output -5V, SO-8
pins: 1 OUT, 2 IN, 3 IN, 4 NC, 5 GND, 6 IN, 7 IN, 8 NC

## L79L15_SOT89
designator *  value L79L15_SOT89  Reference: U
Negative 100mA -30V Linear Regulator, Fixed Output -5V, SOT-89; ki_keywords: Voltage Regulator 100mA Negative; ki_fp_filters: SOT?89*; Footprint: Package_TO_SOT_SMD:SOT-89-3; Datasheet: http://www.farnell.com/datasheets/1827870.pdf; Description_: Negative 100mA -30V Linear Regulator, Fixed Output -5V, SOT-89
pins: 1 GND, 2 VI, 3 VO

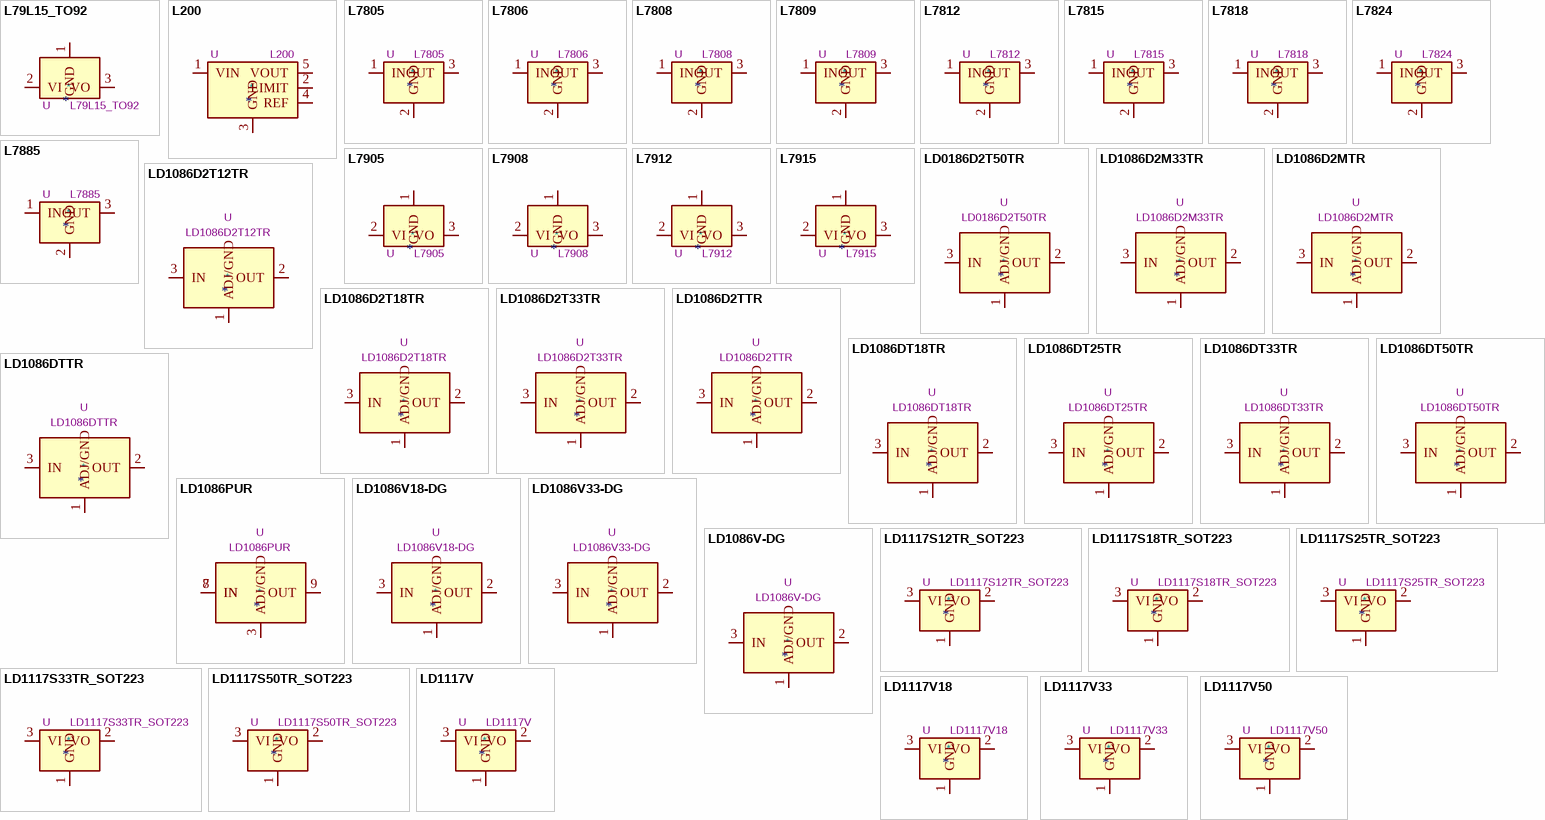
[diagram p10: symbols L79L15_TO92 to LD1117V50]

## L79L15_TO92
designator *  value L79L15_TO92  Reference: U
Negative 100mA -30V Linear Regulator, Fixed Output -5V, TO-92; ki_keywords: Voltage Regulator 100mA Negative; ki_fp_filters: TO?92*; Footprint: Package_TO_SOT_THT:TO-92_Inline; Datasheet: http://www.farnell.com/datasheets/1827870.pdf; Description_: Negative 100mA -30V Linear Regulator, Fixed Output -5V, TO-92
pins: 1 GND, 2 VI, 3 VO

## L200
designator *  value L200  Reference: U
Adjustable voltage and current regulator, 2A, 36V; ki_keywords: 2A Regulator Adjustable Positive; ki_fp_filters: TO?220*StaggerOdd*; Footprint: Package_TO_SOT_THT:TO-220-5_P3.4x3.8mm_StaggerOdd_Lead7.13mm_TabDown; Datasheet: http://www.zen22142.zen.co.uk/Circuits/Power/l200.pdf; Description_: Adjustable voltage and current regulator, 2A, 36V
pins: 1 VIN, 2 LIMIT, 3 GND, 4 REF, 5 VOUT

## L7805
designator *  value L7805  Reference: U
Positive 1.5A 35V Linear Regulator, Fixed Output 5V, TO-220/TO-263/TO-252; ki_keywords: Voltage Regulator 1.5A Positive; ki_fp_filters: TO?252* TO?263* TO?220*; Datasheet: http://www.st.com/content/ccc/resource/technical/document/datasheet/41/4f/b3/b0/12/d4/47/88/CD00000444.pdf/files/CD00000444.pdf/jcr:content/translations/en.CD00000444.pdf; Description_: Positive 1.5A 35V Linear Regulator, Fixed Output 5V, TO-220/TO-263/TO-252
pins: 1 IN, 2 GND, 3 OUT

## L7806
designator *  value L7806  Reference: U
Positive 1.5A 35V Linear Regulator, Fixed Output 6V, TO-220/TO-263/TO-252; ki_keywords: Voltage Regulator 1.5A Positive; ki_fp_filters: TO?252* TO?263* TO?220*; Datasheet: http://www.st.com/content/ccc/resource/technical/document/datasheet/41/4f/b3/b0/12/d4/47/88/CD00000444.pdf/files/CD00000444.pdf/jcr:content/translations/en.CD00000444.pdf; Description_: Positive 1.5A 35V Linear Regulator, Fixed Output 6V, TO-220/TO-263/TO-252
pins: 1 IN, 2 GND, 3 OUT

## L7808
designator *  value L7808  Reference: U
Positive 1.5A 35V Linear Regulator, Fixed Output 8V, TO-220/TO-263/TO-252; ki_keywords: Voltage Regulator 1.5A Positive; ki_fp_filters: TO?252* TO?263* TO?220*; Datasheet: http://www.st.com/content/ccc/resource/technical/document/datasheet/41/4f/b3/b0/12/d4/47/88/CD00000444.pdf/files/CD00000444.pdf/jcr:content/translations/en.CD00000444.pdf; Description_: Positive 1.5A 35V Linear Regulator, Fixed Output 8V, TO-220/TO-263/TO-252
pins: 1 IN, 2 GND, 3 OUT

## L7809
designator *  value L7809  Reference: U
Positive 1.5A 35V Linear Regulator, Fixed Output 9V, TO-220/TO-263/TO-252; ki_keywords: Voltage Regulator 1.5A Positive; ki_fp_filters: TO?252* TO?263* TO?220*; Datasheet: http://www.st.com/content/ccc/resource/technical/document/datasheet/41/4f/b3/b0/12/d4/47/88/CD00000444.pdf/files/CD00000444.pdf/jcr:content/translations/en.CD00000444.pdf; Description_: Positive 1.5A 35V Linear Regulator, Fixed Output 9V, TO-220/TO-263/TO-252
pins: 1 IN, 2 GND, 3 OUT

## L7812
designator *  value L7812  Reference: U
Positive 1.5A 35V Linear Regulator, Fixed Output 12V, TO-220/TO-263/TO-252; ki_keywords: Voltage Regulator 1.5A Positive; ki_fp_filters: TO?252* TO?263* TO?220*; Datasheet: http://www.st.com/content/ccc/resource/technical/document/datasheet/41/4f/b3/b0/12/d4/47/88/CD00000444.pdf/files/CD00000444.pdf/jcr:content/translations/en.CD00000444.pdf; Description_: Positive 1.5A 35V Linear Regulator, Fixed Output 12V, TO-220/TO-263/TO-252
pins: 1 IN, 2 GND, 3 OUT

## L7815
designator *  value L7815  Reference: U
Positive 1.5A 35V Linear Regulator, Fixed Output 15V, TO-220/TO-263/TO-252; ki_keywords: Voltage Regulator 1.5A Positive; ki_fp_filters: TO?252* TO?263* TO?220*; Datasheet: http://www.st.com/content/ccc/resource/technical/document/datasheet/41/4f/b3/b0/12/d4/47/88/CD00000444.pdf/files/CD00000444.pdf/jcr:content/translations/en.CD00000444.pdf; Description_: Positive 1.5A 35V Linear Regulator, Fixed Output 15V, TO-220/TO-263/TO-252
pins: 1 IN, 2 GND, 3 OUT

## L7818
designator *  value L7818  Reference: U
Positive 1.5A 35V Linear Regulator, Fixed Output 18V, TO-220/TO-263/TO-252; ki_keywords: Voltage Regulator 1.5A Positive; ki_fp_filters: TO?252* TO?263* TO?220*; Datasheet: http://www.st.com/content/ccc/resource/technical/document/datasheet/41/4f/b3/b0/12/d4/47/88/CD00000444.pdf/files/CD00000444.pdf/jcr:content/translations/en.CD00000444.pdf; Description_: Positive 1.5A 35V Linear Regulator, Fixed Output 18V, TO-220/TO-263/TO-252
pins: 1 IN, 2 GND, 3 OUT

## L7824
designator *  value L7824  Reference: U
Positive 1.5A 40V Linear Regulator, Fixed Output 24V, TO-220/TO-263/TO-252; ki_keywords: Voltage Regulator 1.5A Positive; ki_fp_filters: TO?252* TO?263* TO?220*; Datasheet: http://www.st.com/content/ccc/resource/technical/document/datasheet/41/4f/b3/b0/12/d4/47/88/CD00000444.pdf/files/CD00000444.pdf/jcr:content/translations/en.CD00000444.pdf; Description_: Positive 1.5A 40V Linear Regulator, Fixed Output 24V, TO-220/TO-263/TO-252
pins: 1 IN, 2 GND, 3 OUT

## L7885
designator *  value L7885  Reference: U
Positive 1.5A 35V Linear Regulator, Fixed Output 8.5V, TO-220/TO-263/TO-252; ki_keywords: Voltage Regulator 1.5A Positive; ki_fp_filters: TO?252* TO?263* TO?220*; Datasheet: http://www.st.com/content/ccc/resource/technical/document/datasheet/41/4f/b3/b0/12/d4/47/88/CD00000444.pdf/files/CD00000444.pdf/jcr:content/translations/en.CD00000444.pdf; Description_: Positive 1.5A 35V Linear Regulator, Fixed Output 8.5V, TO-220/TO-263/TO-252
pins: 1 IN, 2 GND, 3 OUT

## L7905
designator *  value L7905  Reference: U
Negative 1.5A 35V Linear Regulator, Fixed Output -5V, TO-220/TO-263; ki_keywords: Voltage Regulator 1.5A Negative; ki_fp_filters: TO?220* TO?263*; Datasheet: http://www.st.com/content/ccc/resource/technical/document/datasheet/c9/16/86/41/c7/2b/45/f2/CD00000450.pdf/files/CD00000450.pdf/jcr:content/translations/en.CD00000450.pdf; Description_: Negative 1.5A 35V Linear Regulator, Fixed Output -5V, TO-220/TO-263
pins: 1 GND, 2 VI, 3 VO

## L7908
designator *  value L7908  Reference: U
Negative 1.5A 35V Linear Regulator, Fixed Output -8V, TO-220/TO-263; ki_keywords: Voltage Regulator 1.5A Negative; ki_fp_filters: TO?220* TO?263*; Datasheet: http://www.st.com/content/ccc/resource/technical/document/datasheet/c9/16/86/41/c7/2b/45/f2/CD00000450.pdf/files/CD00000450.pdf/jcr:content/translations/en.CD00000450.pdf; Description_: Negative 1.5A 35V Linear Regulator, Fixed Output -8V, TO-220/TO-263
pins: 1 GND, 2 VI, 3 VO

## L7912
designator *  value L7912  Reference: U
Negative 1.5A 35V Linear Regulator, Fixed Output -12V, TO-220/TO-263; ki_keywords: Voltage Regulator 1.5A Negative; ki_fp_filters: TO?220* TO?263*; Datasheet: http://www.st.com/content/ccc/resource/technical/document/datasheet/c9/16/86/41/c7/2b/45/f2/CD00000450.pdf/files/CD00000450.pdf/jcr:content/translations/en.CD00000450.pdf; Description_: Negative 1.5A 35V Linear Regulator, Fixed Output -12V, TO-220/TO-263
pins: 1 GND, 2 VI, 3 VO

## L7915
designator *  value L7915  Reference: U
Negative 1.5A 35V Linear Regulator, Fixed Output -15V, TO-220/TO-263; ki_keywords: Voltage Regulator 1.5A Negative; ki_fp_filters: TO?220* TO?263*; Datasheet: http://www.st.com/content/ccc/resource/technical/document/datasheet/c9/16/86/41/c7/2b/45/f2/CD00000450.pdf/files/CD00000450.pdf/jcr:content/translations/en.CD00000450.pdf; Description_: Negative 1.5A 35V Linear Regulator, Fixed Output -15V, TO-220/TO-263
pins: 1 GND, 2 VI, 3 VO

## LD0186D2T50TR
designator *  value LD0186D2T50TR  Reference: U
Positive, 1.5A 30V, Linear Regulator, Fixed Output 5V, TO-263; ki_keywords: Linear Regulator 1.5A Fixed Output; ki_fp_filters: TO?263?2*; Footprint: Package_TO_SOT_SMD:TO-263-2; Datasheet: https://www.st.com/resource/en/datasheet/ld1086.pdf; Description_: Positive, 1.5A 30V, Linear Regulator, Fixed Output 5V, TO-263
pins: 1 ADJ/GND, 2 OUT, 3 IN

## LD1086D2M33TR
designator *  value LD1086D2M33TR  Reference: U
Positive, 1.5A 30V, Linear Regulator, Fixed Output 3.3V, TO-263; ki_keywords: Linear Regulator 1.5A Fixed Output; ki_fp_filters: TO?263*TabPin2*; Footprint: Package_TO_SOT_SMD:TO-263-3_TabPin2; Datasheet: https://www.st.com/resource/en/datasheet/ld1086.pdf; Description_: Positive, 1.5A 30V, Linear Regulator, Fixed Output 3.3V, TO-263
pins: 1 ADJ/GND, 2 OUT, 3 IN